# EAGLE library part DRIVER (library arduino_nano)
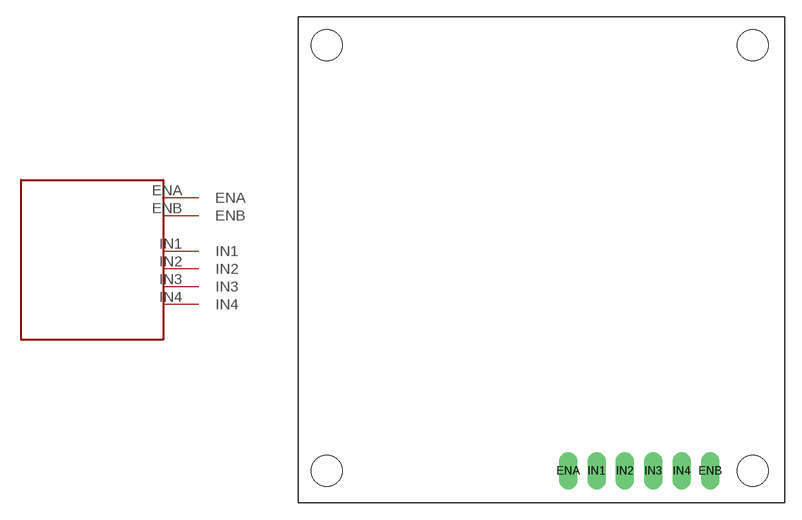
[diagram p0: symbol with the pads of DRIVER; footprint DRIVER]

Designator prefix -

## DRIVER  [DRIVER]
ENA  ENA
ENB  ENB
IN1  IN1
IN2  IN2
IN3  IN3
IN4  IN4

## Footprint DRIVER (pad centres in mm)
drill 0.9 pad 1.676 long: ENA 24.13,-40.64; ENB 36.83,-40.64; IN1 26.67,-40.64; IN2 29.21,-40.64; IN3 31.75,-40.64; IN4 34.29,-40.64
hole 2.8 at 40.64,-40.64
hole 2.8 at 2.54,-40.64
hole 2.8 at 2.54,-2.54
hole 2.8 at 40.64,-2.54